# EAGLE library part CD4066 (library ardustat)
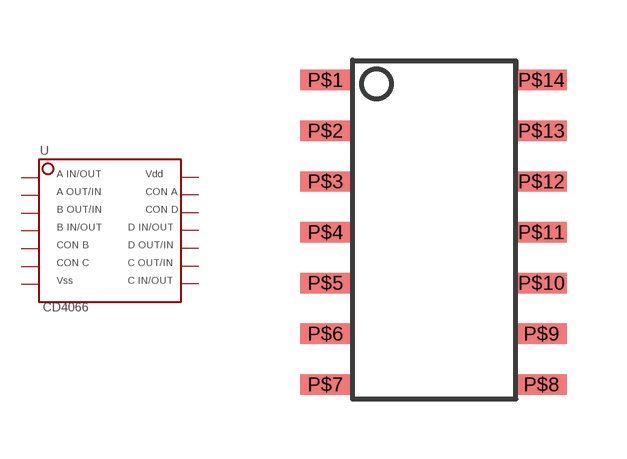
[diagram p11: symbol with the pads of CD4066; footprint CD4066]

Designator prefix -

## CD4066  [CD4066]
P$1  AIN/OUT
P$2  AOUT/IN
P$3  BOUT/IN
P$4  BIN/OUT
P$5  CON_B
P$6  CON_C
P$7  VSS
P$8  CIN/OUT
P$9  COUT/IN
P$10  DOUT/IN
P$11  DIN/OUT
P$12  CON_D
P$13  CON_A
P$14  VDD

## Footprint CD4066 (pad centres in mm)
smd 1.27 x 0.51: P$1 -2.7,3.81; P$2 -2.7,2.54; P$3 -2.7,1.27; P$4 -2.7,0; P$5 -2.7,-1.27; P$6 -2.7,-2.54; P$7 -2.7,-3.81; P$8 2.7,-3.81; P$9 2.7,-2.54; P$10 2.7,-1.27; P$11 2.7,0; P$12 2.7,1.27; P$13 2.7,2.54; P$14 2.7,3.81